# EAGLE library part IC_LT3401 (library psas_eagle_library)
1A, 5.5V, 3MHz, Boost regulator
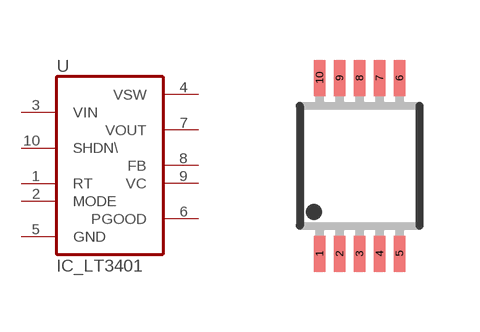
[diagram p14: symbol with the pads of LTMSOP10; footprint LTMSOP10]

Designator prefix -

## IC_LT3401  [LTMSOP10]
1  RT  pas
2  MODE  in
3  VIN  pas
4  VSW  pas
5  GND  pwr
6  PGOOD  out
7  VOUT  pas
8  FB  pas
9  VC  pas
10  SHDN\  in

## Footprint LTMSOP10 (pad centres in mm)
smd 0.279 x 0.9: 1 -1,-2.2; 2 -0.5,-2.2; 3 0,-2.2; 4 0.5,-2.2; 5 1,-2.2; 6 1,2.2; 7 0.5,2.2; 8 0,2.2; 9 -0.5,2.2; 10 -1,2.2